# EAGLE library part RB1-125BAG1A (library APU_ENGR480_UPS_EAGLE_Library)
Accessory RJ-45 With Transformer Connector - UDE From SnapEDA
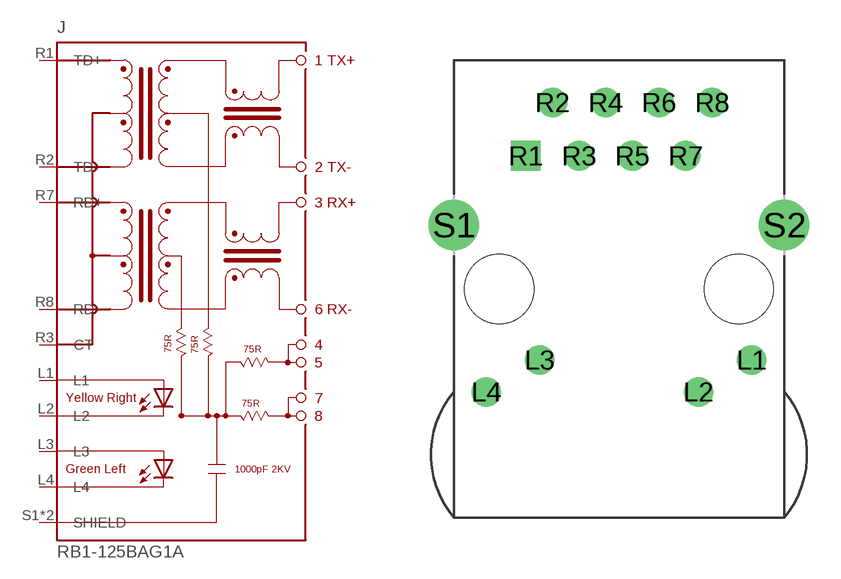
[diagram p11: symbol with the pads of WIZNET_RB1-125BAG1A; footprint WIZNET_RB1-125BAG1A]

Designator prefix J

## RB1-125BAG1A (AVAILABILITY: Good; DESCRIPTION: Accessory RJ-45 With Transformer Connector - UDE; MF: WIZnet; MP: RB1-125BAG1A; PACKAGE: None; PRICE: 2.18 USD)  [WIZNET_RB1-125BAG1A]
L1  L1  pas
L2  L2  pas
L3  L3  pas
L4  L4  pas
R1  TD+  in
R2  TD-  in
R3  CT  in
R7  RD+  in
R8  RD-  in
S1  SHIELD  in
S2  SHIELD  in

## Footprint WIZNET_RB1-125BAG1A (pad centres in mm)
drill 0.9: L1 6.325,-3.38; L2 3.784,-4.899; L3 -3.786,-3.379; L4 -6.325,-4.9
drill 0.9 pad 1.3 square: R1 -4.446,6.349
drill 0.9 pad 1.3: R2 -3.176,8.889; R3 -1.906,6.349; R4 -0.636,8.889; R5 0.634,6.349; R6 1.904,8.889; R7 3.174,6.349; R8 4.444,8.889
drill 1.6 pad 2.184: S1 -7.876,3.049; S2 7.874,3.049
hole 3.3 at 5.714,-0.001
hole 3.3 at -5.716,-0.001